# Altium schematic symbol library WikiHub.SCHLIB: 11 symbols
Pins are listed as number, name and electrical type; pins without a type are passive.

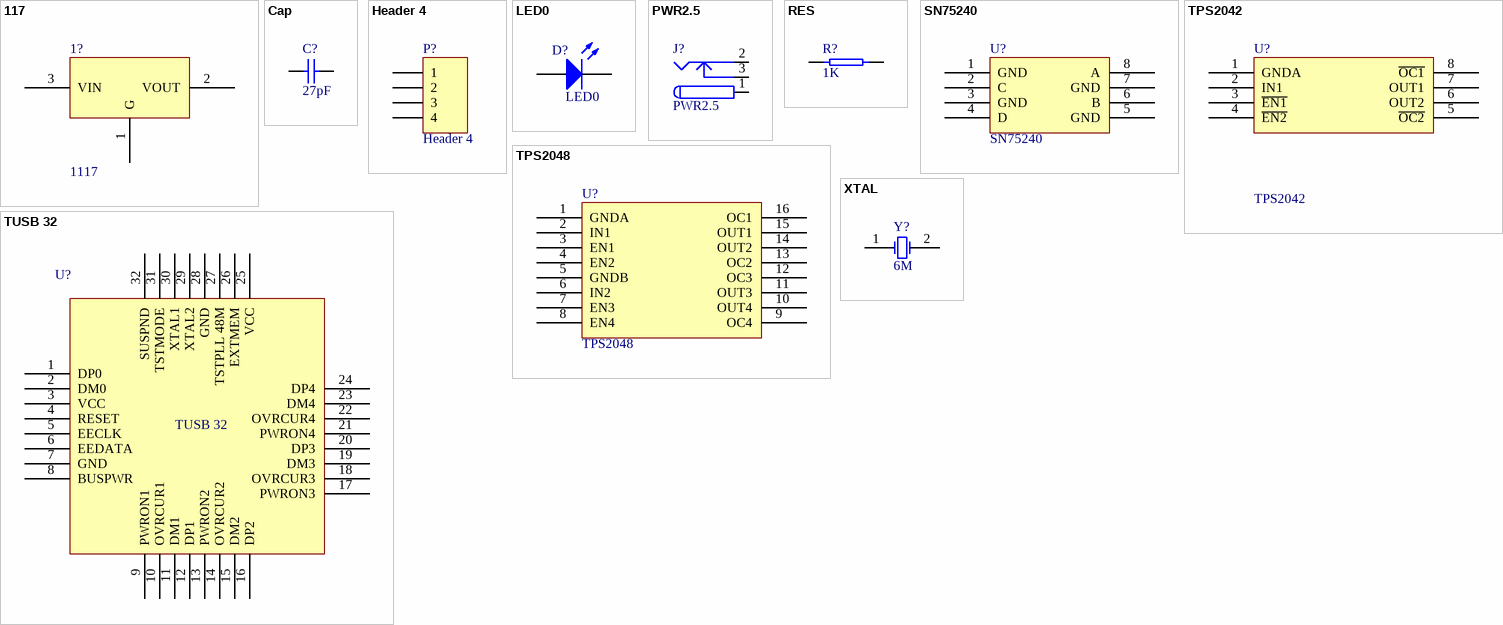
[diagram p0: symbols 117 to XTAL]

## 117
designator 1?, comment 1117
footprint 1117
pins: 1 G, 2 VOUT, 3 VIN

## Cap
designator C?, comment 27pF
Capacitor; Value: 22P; Published: 8-Jun-2000; LatestRevisionDate: 17-Jul-2002; LatestRevisionNote: Re-released for DXP Platform.; PackageReference: RAD-0.3; Publisher: Altium Limited
footprint RAD-0.3 (Radial Cap, Thru-Hole; 2 Leads; 0.3 in Pin Spacing)
footprint CAPR2.54-5.1x3.2 (Capacitor, Ceramic, Thru-Hole, Dipped Radial; Body 5.1 x 3.2 mm (WxT) Pin Spacing 2.54 mm (typ))
footprint CAPR5.08-7.8x3.2 (Capacitor, Ceramic, Thru-Hole, Dipped Radial; Body 7.8 x 3.2 mm (WxT) Pin Spacing 5.08 mm (typ))
simulation model CAP (Capacitor)
signal-integrity model Cap
footprint 0805C
footprint 0805C
pins: 1, 2

## Header 4
designator P?
Header, 4-Pin; LatestRevisionDate: 17-Jul-2002; LatestRevisionNote: Re-released for DXP Platform.; Publisher: Altium Limited
footprint USB阳头
pins: 1, 2, 3, 4

## LED0
designator D?
Typical INFRARED GaAs LED; Published: 8-Jun-2000; LatestRevisionDate: 08-Jul-2005; LatestRevisionNote: Mech Layer 1 removed.; PackageReference: LED-0; Publisher: Altium Limited
footprint LED-0 (Typical INFRARED GaAs LED; 2 Leads)
simulation model LED0 (Diode)
footprint 0805D
pins: 1 A, 2 K

## PWR2.5
designator J?
Low Voltage Power Supply Connector; Published: 17-Dec-2003; DatasheetDocument: 09-May-2002; Publisher: Altium Limited; ComponentLink1Description: Manufacturer Link; ComponentLink1URL: http://domino.kycon.com/internet/Products.html
signal-integrity model Connector
footprint 电源DC插座5.4mm
footprint 电源DC插座2.5*0.7
pins: 1 (power), 2 (power), 3 (power)

## RES
designator R?, comment 1K
footprint 0805
pins: 1, 2

## SN75240
designator U?
footprint SOP8 - 0.65 (Small Outline; 8 Leads; Body Width 4.3 mm; Pitch 1.27 mm)
pins: 1 GND, 2 C, 3 GND, 4 D, 5 GND, 6 B, 7 GND, 8 A

## TPS2042
designator U?
footprint SO8W_M (8-Pin Small Outline Package 1.27 mm Pitch, IPC Low Density)
pins: 1 GNDA, 2 IN1, 3 ~{EN1}, 4 ~{EN2}, 5 ~{OC2}, 6 OUT2, 7 OUT1, 8 ~{OC1}

## TPS2048
designator U?
footprint SO-16
pins: 1 GNDA, 2 IN1, 3 EN1, 4 EN2, 5 GNDB, 6 IN2, 7 EN3, 8 EN4, 9 OC4, 10 OUT4, 11 OUT3, 12 OC3, 13 OC2, 14 OUT2, 15 OUT1, 16 OC1

## TUSB 32
designator U?
footprint TQFP32
pins: 1 DP0, 2 DM0, 3 VCC, 4 RESET, 5 EECLK, 6 EEDATA, 7 GND, 8 BUSPWR, 9 PWRON1, 10 OVRCUR1, 11 DM1, 12 DP1, 13 PWRON2, 14 OVRCUR2, 15 DM2, 16 DP2, 17 PWRON3, 18 OVRCUR3, 19 DM3, 20 DP3, 21 PWRON4, 22 OVRCUR4, 23 DM4, 24 DP4, 25 VCC, 26 EXTMEM, 27 TSTPLL 48M, 28 GND, 29 XTAL2, 30 XTAL1, 31 TSTMODE, 32 SUSPND

## XTAL
designator Y?, comment 6M
Crystal Oscillator; Published: 8-Jun-2000; LatestRevisionDate: 17-Jul-2002; LatestRevisionNote: Re-released for DXP Platform.; PackageReference: R38; Publisher: Altium Limited
footprint BCY-W2/D3.1 (Crystal, Thru-Hole; 2 Leads; Body 3.1 x 8.2 mm (Dia.xH))
simulation model XTAL (Spice Subcircuit)
footprint XTAL
pins: 1 OSC1, 2 OSC2